# EAGLE library part ATTINY102 (library SyncChannelCustom)
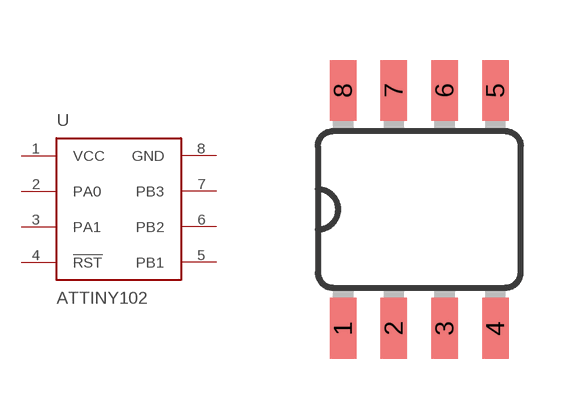
[diagram p5: symbol with the pads of SO08-NARROWPADS; footprint SO08-NARROWPADS]

Designator prefix U

## ATTINY102  [SO08-NARROWPADS]
1  VCC
2  PA0
3  PA1
4  !RST
5  PB1
6  PB2
7  PB3
8  GND

## Footprint SO08-NARROWPADS (pad centres in mm)
smd 0.66 x 1.524: 1 -1.905,-2.973; 2 -0.635,-2.973; 3 0.635,-2.973; 4 1.905,-2.973; 5 1.905,2.973; 6 0.635,2.973; 7 -0.635,2.973; 8 -1.905,2.973